# EAGLE library part BQ24070 (library Lysenko_Eagle_Lib)
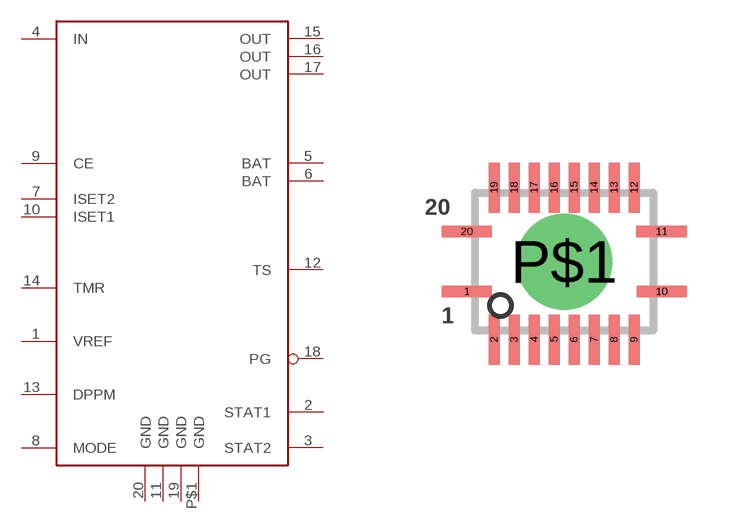
[diagram p9: symbol with the pads of BQ24070; footprint BQ24070]

Designator prefix -

## BQ24070  [BQ24070]
1  VREF
2  STAT1
3  STAT2
4  IN
5  BAT
6  BAT
7  ISET2
8  MODE
9  CE
10  ISET1
11  GND
12  TS
13  DPPM
14  TMR
15  OUT
16  OUT
17  OUT
18  PG
19  GND
20  GND
P$1  GND

## Footprint BQ24070 (pad centres in mm)
smd 1.25 x 0.28: 1 -2.435,-0.75; 10 2.435,-0.75; 20 -2.435,0.75
smd 0.28 x 1.25: 2 -1.75,-1.95; 3 -1.25,-1.95; 4 -0.75,-1.95; 5 -0.25,-1.95; 6 0.25,-1.95; 7 0.75,-1.95; 8 1.25,-1.95; 9 1.75,-1.95; 12 1.75,1.85; 13 1.25,1.85; 14 0.75,1.85; 15 0.25,1.85; 16 -0.25,1.85; 17 -0.75,1.85; 18 -1.25,1.85; 19 -1.75,1.85
smd 1.253 x 0.28: 11 2.435,0.75
drill 1.6 pad 1.676: P$1 0,0